# EAGLE library part TPS542941PWP (library TPS542941)
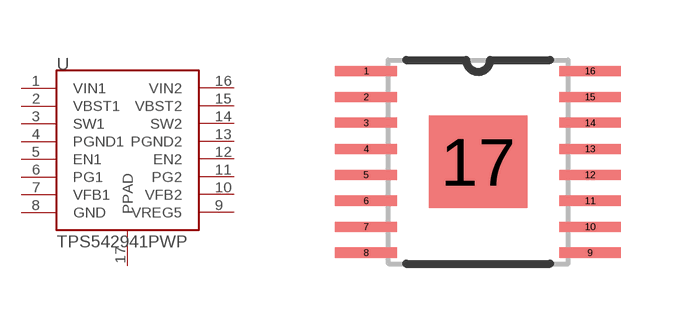
[diagram p0: symbol with the pads of HTSSOP16; footprint HTSSOP16]

Designator prefix U

## TPS542941PWP  [HTSSOP16]
1  VIN1  in
2  VBST1  in
3  SW1
4  PGND1
5  EN1  in
6  PG1  out
7  VFB1  in
8  GND
9  VREG5  out
10  VFB2  in
11  PG2  out
12  EN2  in
13  PGND2
14  SW2
15  VBST2  in
16  VIN2  in
17  PPAD

## Footprint HTSSOP16 (pad centres in mm)
smd 1.55 x 0.25: 1 -2.8,2.275; 2 -2.8,1.625; 3 -2.8,0.975; 4 -2.8,0.325; 5 -2.8,-0.325; 6 -2.8,-0.975; 7 -2.8,-1.625; 8 -2.8,-2.275; 9 2.8,-2.275; 10 2.8,-1.625; 11 2.8,-0.975; 12 2.8,-0.325; 13 2.8,0.325; 14 2.8,0.975; 15 2.8,1.625; 16 2.8,2.275
smd 2.46 x 2.31: 17 0,0